# Altium schematic symbol library 61201021621.SchLib: 1 symbol
Pins are listed as number, name and electrical type; pins without a type are passive.

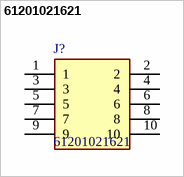
[diagram p0: symbol 61201021621]

## 61201021621
designator J?
10 way 2.54mm male box Header Wurth Elektronik 612 Series, 2.54mm Pitch 10 Way 2 Row Straight PCB Header, Solder Termination, 3A; Geometry.Height: 9.25mm; Mouser Part Number: 710-61201021621; Mouser Price/Stock: https://www.mouser.co.uk/ProductDetail/Wurth-Elektronik/61201021621?qs=W%252B2sBeLta1a0dwX5pxbfXw%3D%3D; Manufacturer_Name: Wurth Elektronik; Manufacturer_Part_Number: 61201021621; Datasheet Link: https://datasheet.datasheetarchive.com/originals/distributors/Datasheets_SAMA/ec2d1eaddfe1dc3d07279947380a13e2.pdf
footprint SHDR10W64P254_2X5_2036X885X925P
pins: 1, 2, 3, 4, 5, 6, 7, 8, 9, 10